# Altium footprint library RB015-3.PcbLib: 1 footprints
Each footprint in its own frame and in the unit in brackets; x right, y up, seen from the top. Pads: shape width x height; smd on the part's side, far side on the other; paste and mask are expansions set on the pad; w line width, h text height; cw(c..) or ccw(c..) is an arc to the next point about the centre after c.
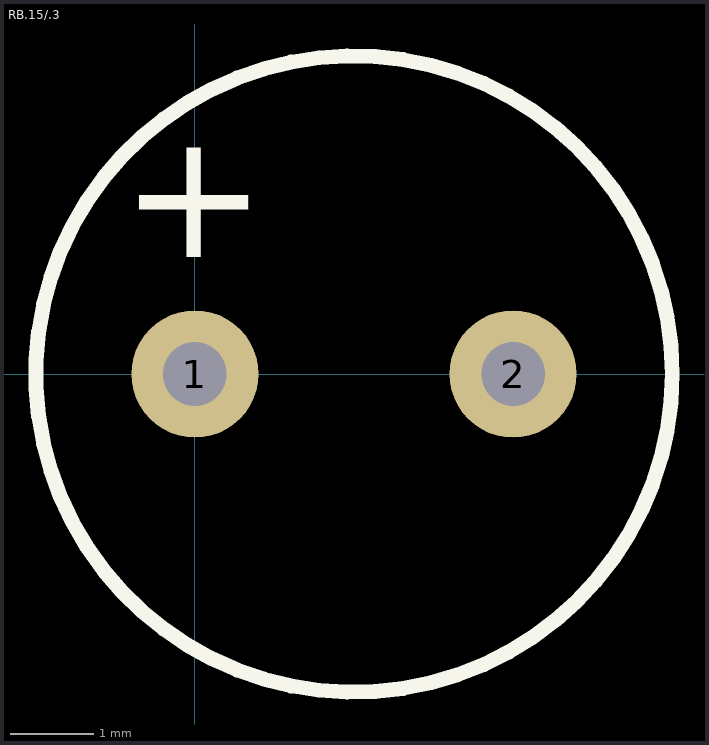
[diagram p0: the footprint, top view; thin cyan lines are the x and y axes]

## RB.15/.3 [mil] "电解电容"
height 50
pads (2):
  round 60 hole 30: 1(0,0) 2(150,0)
Top Overlay:
  circle w7: c75,0 r150
  text "+" at -35,55 h60